# EAGLE library part TDA1574 (library ic)
PHILIPS - Integrated FM tuner for radio receivers http://www.elektronik.sk/datasheet/TDA1574.pdf
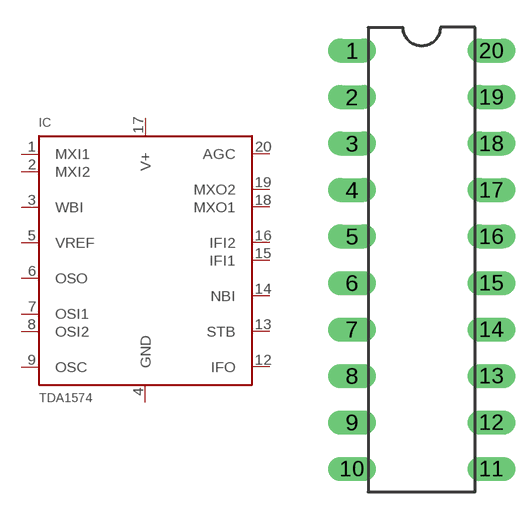
[diagram p18: symbol with the pads of DIL20; footprint DIL20]

Designator prefix IC

## TDA1574  [DIL20]
1  MXI1
2  MXI2
3  WBI
4  GND
5  VREF
6  OSO
7  OSI1
8  OSI2
9  OSC
12  IFO
13  STB
14  NBI
15  IFI1
16  IFI2
17  V+
18  MXO1
19  MXO2
20  AGC

## Footprint DIL20 (pad centres in mm)
drill 0.8 long: 1 -3.81,11.43; 2 -3.81,8.89; 3 -3.81,6.35; 4 -3.81,3.81; 5 -3.81,1.27; 6 -3.81,-1.27; 7 -3.81,-3.81; 8 -3.81,-6.35; 9 -3.81,-8.89; 10 -3.81,-11.43; 11 3.81,-11.43; 12 3.81,-8.89; 13 3.81,-6.35; 14 3.81,-3.81; 15 3.81,-1.27; 16 3.81,1.27; 17 3.81,3.81; 18 3.81,6.35; 19 3.81,8.89; 20 3.81,11.43